# EAGLE library part LT3470 (library linear-technology)
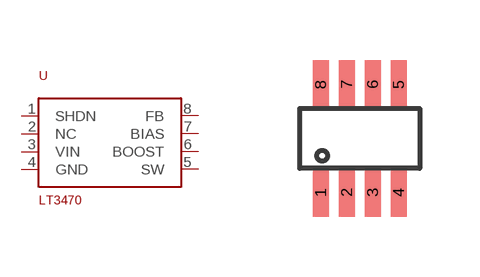
[diagram p32: symbol with the pads of TSOT23; footprint TSOT23]

Designator prefix -

## LT3470  [TSOT23]
1  SHDN
2  NC
3  VIN
4  GND
5  SW
6  BOOST
7  BIAS
8  FB

## Footprint TSOT23 (pad centres in mm)
smd 0.4 x 1.22: 1 -0.975,-1.35; 2 -0.325,-1.35; 3 0.325,-1.35; 4 0.975,-1.35; 5 0.975,1.35; 6 0.325,1.35; 7 -0.325,1.35; 8 -0.975,1.35